# EAGLE library part PSA08-11 (library psa_08-11)
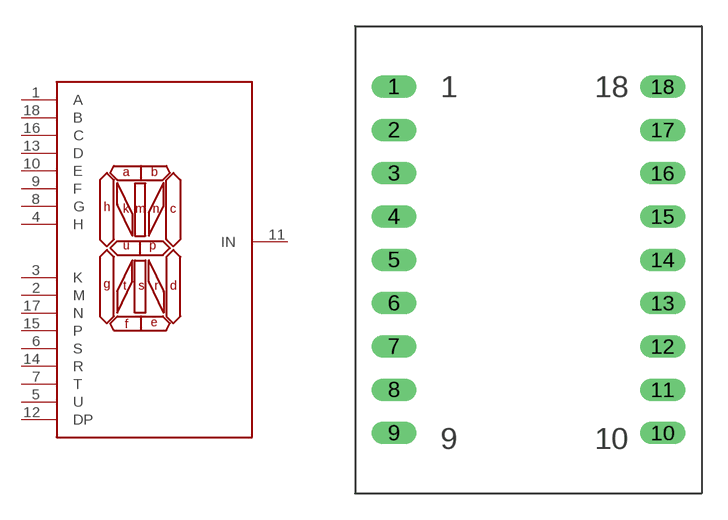
[diagram p0: symbol with the pads of MSA08-11; footprint MSA08-11]

Designator prefix -

## PSA08-11  [MSA08-11]
1  A  pwr
2  M  pwr
3  K  pwr
4  H  pwr
5  U  pwr
6  S  pwr
7  T  pwr
8  G  pwr
9  F  pwr
10  E  pwr
11  IN  pwr
12  DP  pwr
13  D  pwr
14  R  pwr
15  P  pwr
16  C  pwr
17  N  pwr
18  B  pwr

## Footprint MSA08-11 (pad centres in mm)
drill 0.8 long: 1 -7.75,9.5; 2 -7.75,7; 3 -7.75,4.5; 4 -7.75,2; 5 -7.75,-0.5; 6 -7.75,-3; 7 -7.75,-5.5; 8 -7.75,-8; 9 -7.75,-10.5; 10 7.75,-10.5; 11 7.75,-8; 12 7.75,-5.5; 13 7.75,-3; 14 7.75,-0.5; 15 7.75,2; 16 7.75,4.5; 17 7.75,7; 18 7.75,9.5